# EAGLE library part DRV8838DSGT (library DRV8838)
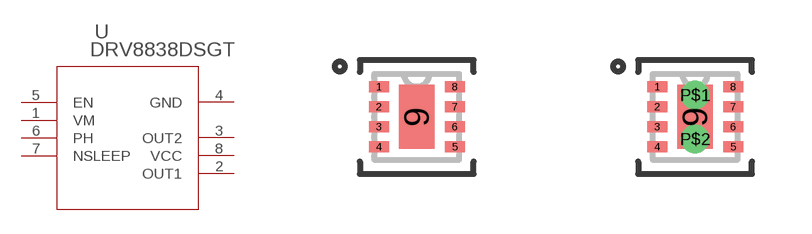
[diagram p0: symbol with the pads of DSG8_P9X1P6; footprints DSG8_P9X1P6, DSG8_P9X1P6_THERMAL]

Designator prefix U

## DRV8838DSGT (MANUFACTURER_PART_NUMBER: DRV8838DSGT; VENDOR: Texas Instruments)  [DSG8_P9X1P6]
1  VM  pwr
2  OUT1  out
3  OUT2  out
4  GND  pwr
5  EN  in
6  PH  in
7  NSLEEP  in
8  VCC  pwr

## DRV8838DSGTDSG8_P9X1P6_THERMAL  [DSG8_P9X1P6_THERMAL]
1  VM  pwr
2  OUT1  out
3  OUT2  out
4  GND  pwr
5  EN  in
6  PH  in
7  NSLEEP  in
8  VCC  pwr
9  GND  pwr
P$1  GND  pwr
P$2  GND  pwr

## DRV8838DSGTDSG8_P9X1P6_THERMAL_EXTENDED  [DSG8_P9X1P6_THERMAL_EXTENDED]
Pads as for DSG8_P9X1P6_THERMAL

## Footprint DSG8_P9X1P6 (pad centres in mm)
smd 0.5 x 0.28: 1 -0.95,0.75; 2 -0.95,0.25; 3 -0.95,-0.25; 4 -0.95,-0.75; 5 0.95,-0.75; 6 0.95,-0.25; 7 0.95,0.25; 8 0.95,0.75
smd 0.889 x 1.6: 9 0,0

## Footprint DSG8_P9X1P6_THERMAL (pad centres in mm)
smd 0.5 x 0.28: 1 -0.95,0.75; 2 -0.95,0.25; 3 -0.95,-0.25; 4 -0.95,-0.75; 5 0.95,-0.75; 6 0.95,-0.25; 7 0.95,0.25; 8 0.95,0.75
smd 0.889 x 1.6: 9 0,0
drill 0.2 pad 0.305: P$1 0,0.55; P$2 0,-0.55

## Footprint DSG8_P9X1P6_THERMAL_EXTENDED (pad centres in mm)
smd 0.762 x 0.28: 1 -1.081,0.75; 2 -1.081,0.25; 3 -1.081,-0.25; 4 -1.081,-0.75; 5 1.081,-0.75; 6 1.081,-0.25; 7 1.081,0.25; 8 1.081,0.75
smd 0.889 x 1.6: 9 0,0
drill 0.33 pad 0.406: P$1 0,0.55; P$2 0,-0.55